# EAGLE library part ARDUINO_ETHERNET (library E14_Arduino_revC)
Device for representing an Arduino Ethernet board with a footprint in an EAGLE design. Created by Dave Young for Element14. More EAGLE documentation at: http://www.element14.com/community/community/knode/cadsoft_eagle
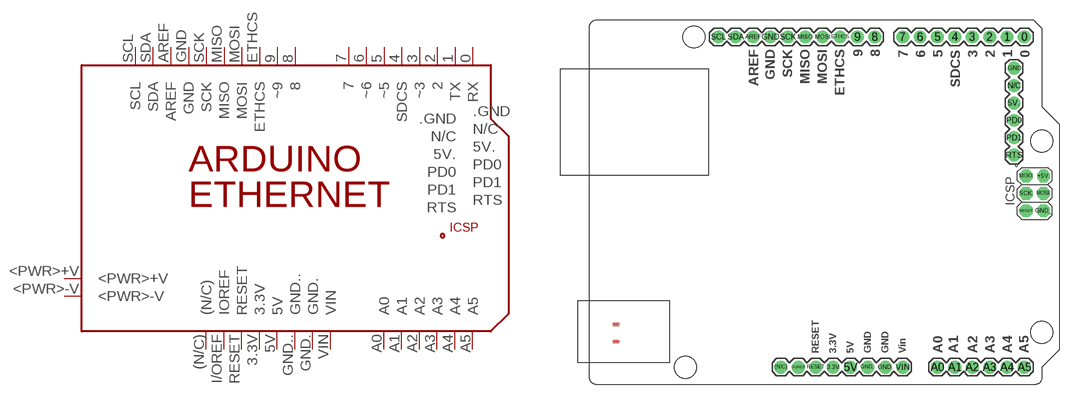
[diagram p4: symbol with the pads of ARDUINO_ETHERNET; footprint ARDUINO_ETHERNET]

Designator prefix PCB

## ARDUINO_ETHERNET  [ARDUINO_ETHERNET]
0  RX
1  TX
2  2
3  ~3
3.3V  3.3V
4  SDCS
5  ~5
5V  5V
5V.  5V.
6  ~6
7  7
8  8
9  ~9
(N/C)  (N/C)
+5V.  +5V.
.GND  .GND
<PWR>+V  <PWR>+V
<PWR>-V  <PWR>-V
A0  A0
A1  A1
A2  A2
A3  A3
A4  A4
A5  A5
AREF  AREF
ETHCS  ETHCS
GND  GND
GND.  GND.
GND..  GND..
GND_  GND_
I/OREF  IOREF
MISO  MISO
MISO.  MISO.
MOSI  MOSI
MOSI.  MOSI.
N/C  N/C
PD0  PD0
PD1  PD1
RESET  RESET
RESET.  RESET.
RTS  RTS
SCK  SCK
SCK.  SCK.
SCL  SCL
SDA  SDA
VIN  VIN

## Footprint ARDUINO_ETHERNET (pad centres in mm)
Footprint for representing an Arduino Ethernet board in an EAGLE schematic. Created by Dave Young for Element14. More EAGLE documentation at: http://www.element14.com/community/community/knode/cadsoft_eagle
drill 1.016 pad 1.88: 0 63.5,50.8; 1 60.96,50.8; 2 58.42,50.8; 3 55.88,50.8; 3.3V 35.56,2.54; 4 53.34,50.8; 5 50.8,50.8; 5V 38.1,2.54; 5V. 61.976,41.148; 6 48.26,50.8; 7 45.72,50.8; 8 41.656,50.8; 9 39.116,50.8; (N/C) 27.94,2.54; .GND 61.976,46.228; A0 50.8,2.54; A1 53.34,2.54; A2 55.88,2.54; A3 58.42,2.54; A4 60.96,2.54; A5 63.5,2.54; AREF 23.876,50.8; ETHCS 36.576,50.8; GND 26.416,50.8; GND. 43.18,2.54; GND.. 40.64,2.54; I/OREF 30.48,2.54; MISO 31.496,50.8; MOSI 34.036,50.8; N/C 61.976,43.688; PD0 61.976,38.608; PD1 61.976,36.068; RESET 33.02,2.54; RTS 61.976,33.528; SCK 28.956,50.8; SCL 18.796,50.8; SDA 21.336,50.8; VIN 45.72,2.54
drill 1.016 pad 1.88 octagon: +5V. 66.294,30.48; GND_ 66.294,25.4; MISO. 63.754,30.48; MOSI. 66.294,27.94; RESET. 63.754,25.4; SCK. 63.754,27.94
smd 1.016 x 0.508: <PWR>+V 3.861,8.814; <PWR>-V 3.861,6.274
hole 3.2 at 66.04,7.62
hole 3.2 at 66.04,35.56
hole 3.2 at 15.24,50.8
hole 3.2 at 13.97,2.54